# Altium footprint library transistor.PcbLib: 22 footprints (part 2 of 2)
Each footprint in its own frame and in the unit in brackets; x right, y up, seen from the top. Pads: shape width x height; smd on the part's side, far side on the other; paste and mask are expansions set on the pad; w line width, h text height; cw(c..) or ccw(c..) is an arc to the next point about the centre after c.
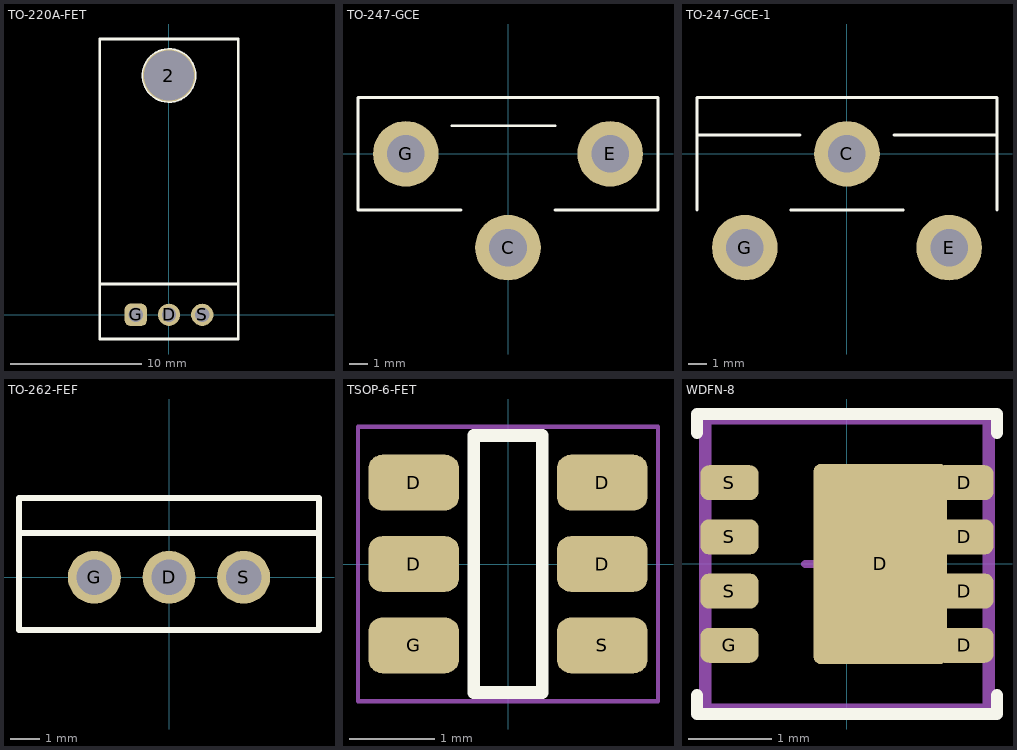
[diagram p1: the footprints below, top view; thin cyan lines are the x and y axes]

## TO-220A-FET [mm] "TO, Thru-Hole, Vertical, Heatsink Mounted; 3 In-Line Leads; Pitch 2.54 mm"
height 19.7
pads (4):
  round 4 hole 3.8: 2(0,18.288)
  round 1.7 hole 1.1: D(0,0) S(2.54,0)
  rrect50% 1.7x1.7 hole 1.1: G(-2.54,0)
Top Overlay:
  circle w0.2: c0,18.288 r2
  lines w0.2: -5.3,2.35 5.3,2.35 ; -5.3,-1.85 -5.3,21.082 5.3,21.082 5.3,-1.85 -5.3,-1.85
3D body "TO220.STEP": height 4.5, standoff -3.5, extent -5.2,-0.254 5.2,20.846

## TO-247-GCE [mm]
pads (3):
  round 3.5 hole 2: C(0,-5) E(5.45,0) G(-5.45,0)
Top Overlay:
  lines w0.15: -3,1.5 2.5,1.5 ; -2.5,-3 -8,-3 -8,3 8,3 8,-3 2.5,-3
3D body "TO-247AC.STEP": height 26.15, standoff -3.84, extent -7.5,-5.2 7.5,3

## TO-247-GCE-1 [mm]
pads (3):
  round 3.5 hole 2: C(0,0) E(5.45,-5) G(-5.45,-5)
Top Overlay:
  lines w0.15: -8,-3 -8,3 8,3 8,-3 ; -8,1 -2.5,1 ; -3,-3 3,-3 ; 2.5,1 8,1
3D body "TO-247AC-1.STEP": height 26.15, standoff -3.84, extent -7.5,-5.2 7.5,3

## TO-262-FEF [mm]
height 13
pads (3):
  round 1.8 hole 1.2: D(0,0) G(-2.54,0) S(2.54,0)
Top Overlay:
  lines w0.2: -5.1,1.5 5.1,1.5 ; -5.1,-1.8 5.1,-1.8 5.1,2.7 -5.1,2.7 -5.1,-1.8

## TSOP-6-FET [mm] "TSOP, 6-Leads, Body 2,90x1,63mm, Pitch 0,95mm, IPC High Density"
height 1.5
pads (6):
  rrect50% 1.06x0.65 smd: D(-1.1,0) D(-1.1,0.95) D(1.1,0) D(1.1,0.95) G(-1.1,-0.95) S(1.1,-0.95)
Top Overlay:
  lines w0.15: -0.4,-1.5 -0.4,1.5 0.4,1.5 0.4,-1.5 -0.4,-1.5
  text "." at -1.069,1.808 h0.1
Top Courtyard:
  lines w0.05: -1.75,-1.6 -1.75,1.6 1.75,1.6 1.75,-1.6 -1.75,-1.6
3D body "TSOP-6-FET.step": height 1.5, standoff 0, extent -1.4,-1.5 1.4,1.5

## WDFN-8 [mm] "WDFN-8, 8-Leads, Body 3,30x3,30mm, Pitch 0,65mm, IPC High Density"
height 0.75
pads (9):
  rrect10% 1.6x2.4 smd: D(0.4,0)
  rrect50% 0.7x0.42 smd: D(1.41,-0.975) D(1.41,-0.325) D(1.41,0.325) D(1.41,0.975) G(-1.41,-0.975) S(-1.41,-0.325) S(-1.41,0.325) S(-1.41,0.975)
Top Overlay:
  lines w0.15: -1.8,-1.575 -1.8,-1.8 1.8,-1.8 1.8,-1.575 ; -1.8,1.575 -1.8,1.8 1.8,1.8 1.8,1.575
  text "." at -2.2,1.6 h0.1
Top Courtyard:
  lines w0.1: -0.5,0 0.5,0 ; 0,-0.5 0,0.5
  lines w0.15: -1.7,-1.75 1.7,-1.75 1.7,1.75 -1.7,1.75 -1.7,-1.75
3D body "WDFN-8.step": height 0.75, standoff 0.1, extent -1.65,-1.65 1.65,1.65